# Altium footprint library 2896144.PcbLib: 1 footprints
Each footprint in its own frame and in the unit in brackets; x right, y up, seen from the top. Pads: shape width x height; smd on the part's side, far side on the other; paste and mask are expansions set on the pad; w line width, h text height; cw(c..) or ccw(c..) is an arc to the next point about the centre after c.

## 2896144 [mm]
3D body "pxc_2896144_03_BC-17-8-DKL-R-KMGY_3D.stp": height 12.48, standoff -5.32, extent -5.7,-42.6 2.3,2.4